# Altium integrated library HORNET-IPG.IntLib: 137 symbols (part 4 of 4)
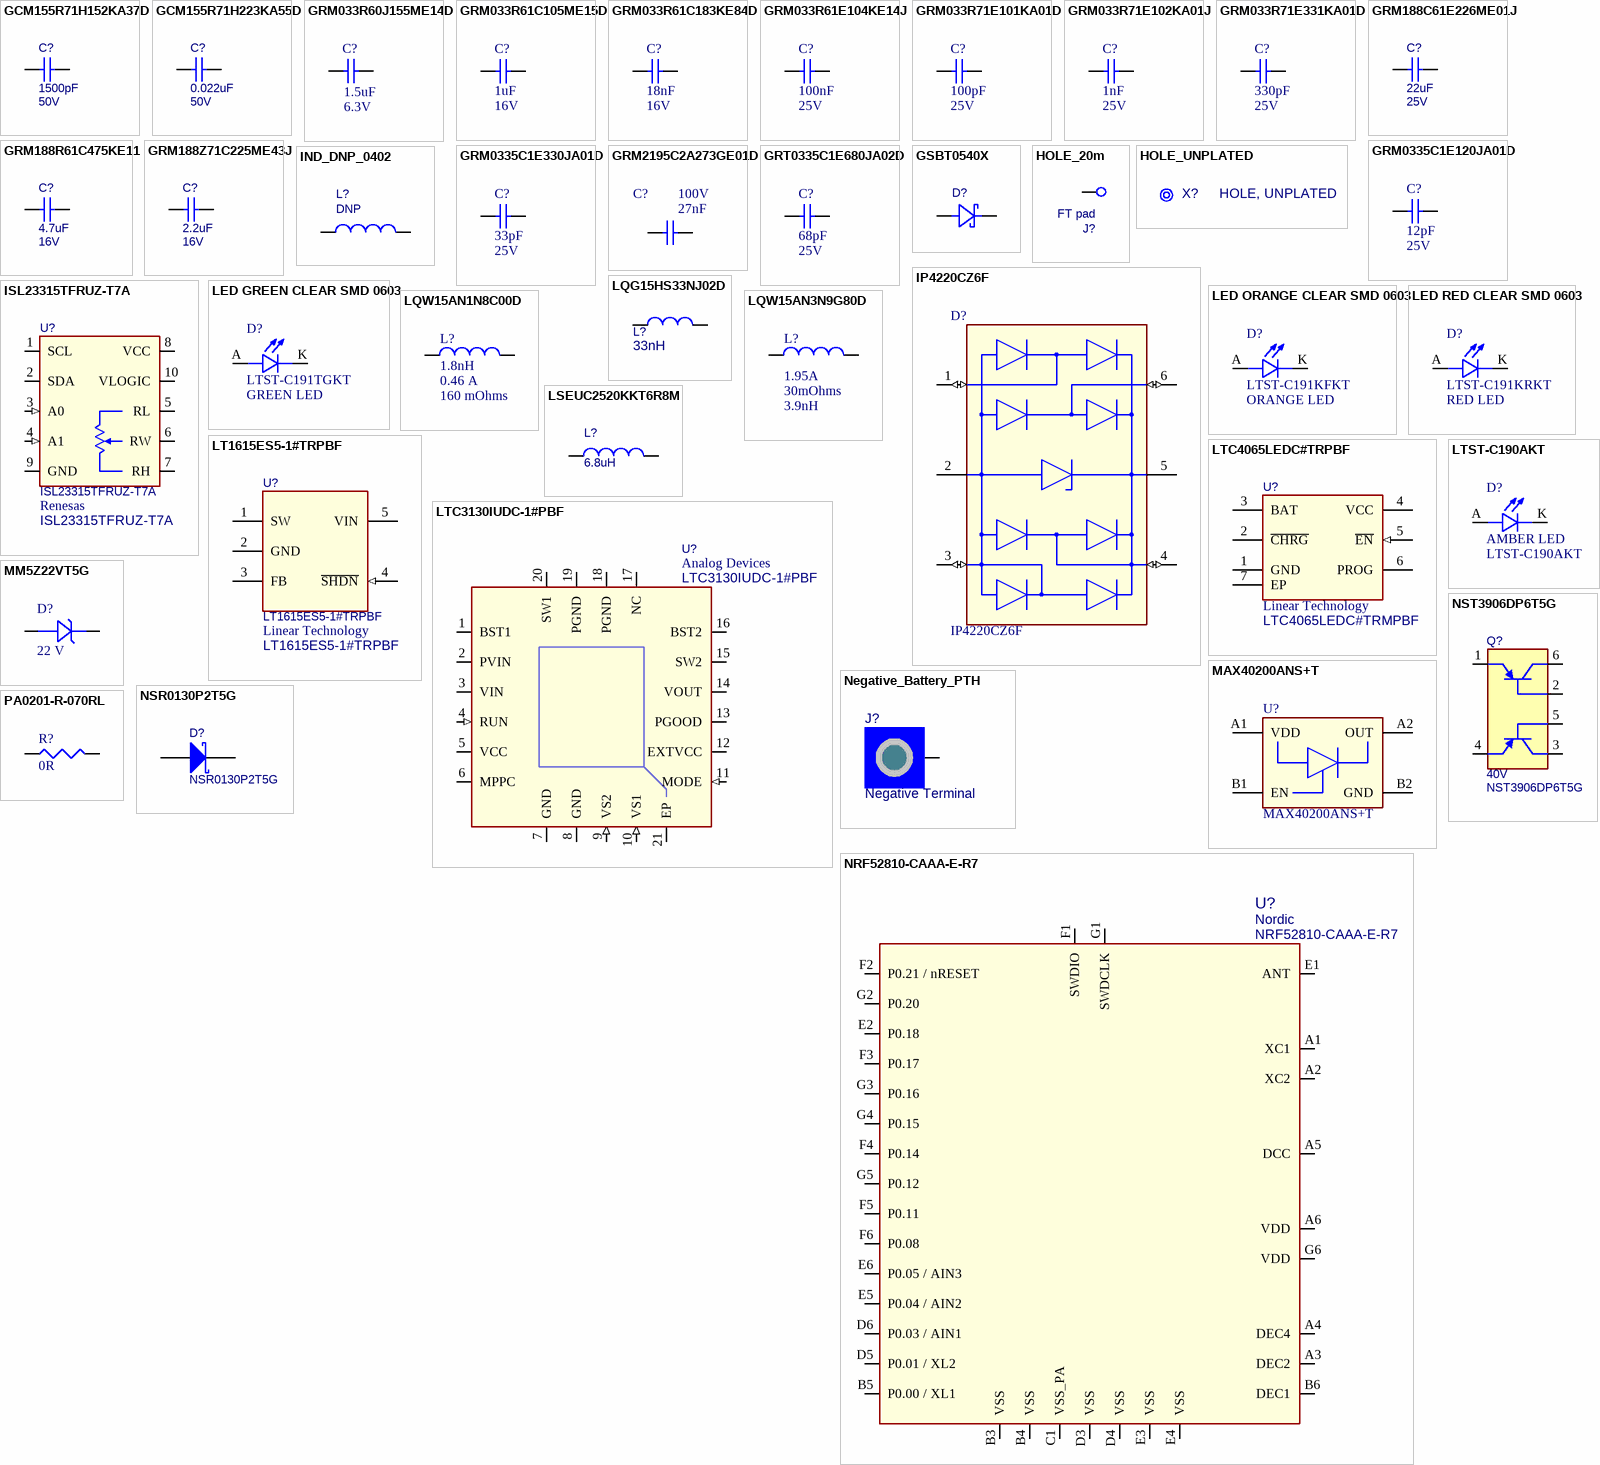
[diagram p7: symbols GCM155R71H152KA37D to PA0201-R-070RL]

## LQW15AN3N9G80D
designator L?  value 3.9nH  Current Rating: 1.95A  DC Resistance: 30mOhms  (hidden comment: LQW15AN3N9G80D)
Inductor, 3.9nH, 1.95A, 2%, 0402; Manufacturer: Murata; Medical Grade Manufacturer: TBD; Shielding: Unshielded; Category: Inductor; Temperature Coefficient: -; Manufacturer Part Number: LQW15AN3N9G80D; Medical Grade Manufacturer Part Number: TBD; Size Code: 0402; Supplier: TBD; Supplier Part Number: TBD; Height: 0.5mm; Width: 0.6mm; Length: 1mm; Tolerance: 2%; Current Saturation: -; Supplier 1: Mouser; Supplier Part Number 1: 81-LQW15AN3N9G80D; Supplier 2: Digikey; Supplier Part Number 2: 490-LQW15AN3N9G80DCT-ND; Supplier 3: Digikey; Supplier Part Number 3: 490-LQW15AN3N9G80DDKR-ND; Supplier 4: Digikey; Supplier Part Number 4: 490-LQW15AN3N9G80DTR-ND
footprint L0402_C (Chip Inductor, 2-Leads, Body 1.00x0.50mm, IPC High Density)
pins: 1, 2

## LSEUC2520KKT6R8M
designator L?  value 6.8uH  (hidden comment: LSEUC2520KKT6R8M)
6.8 µH Unshielded Wirewound Inductor 1.3 A 265mOhm Max 1008 (2520 Metric); Manufacturer: Taiyo Yuden; Medical Grade MFR: TBD; Rating: 1.3A; Length (mm): 2.50 ±0.20; Medical Grade MFR PN: TBD; PCB Footprint: TBD; Thickness (mm): 1.00; Width (mm): 2.00 ±0.20; Category: Inductor; Supplier 1: DigiKey; Supplier Part Number 1: 587-LSEUC2520KKT6R8MCT-ND; Manufacturer Part Number: LSEUC2520KKT6R8M
footprint LSEUC2520KKT6R8M (Inductor, Chip; 2.50 mm L X 2.00 mm W X 1.00 mm H body)
pins: 1, 2

## LT1615ES5-1#TRPBF
designator U?  Manufacturer: Linear Technology
Boost, SEPIC Switching Regulator IC Positive Adjustable 1.23V 1 Output 75mA (Switch) SOT-23-5; Medical Grade MFR: TBD; Rating: 100 mA; Category: IC; Length (mm): 2.80 ±0.20; Medical Grade MFR PN: TBD; Package Description: TBD; PCB Footprint: TBD; Thickness (mm): 1.00; Value: LT1615ES5-1#TRPBF; Width (mm): 2.95 ±0.15; Supplier 1: Digi-Key; Supplier Part Number 1: 505-LT1615ES5-1#TRPBFCT-ND; Status: *; Review: *; Manufacturer Part Number: LT1615ES5-1#TRPBF
footprint LT_S5_L (SOT23, 5-Leads, Body 2.90x2.80mm, Pitch 0.95mm, IPC High Density)
pins: 1 SW, 2 GND (power), 3 FB, 4 ~{SHDN} (in), 5 VIN (power)

## LTC3130IUDC-1#PBF
designator U?  Manufacturer: Analog Devices  (hidden comment: LTC3130IUDC-1#PBF)
Buck-Boost Converter, Selectable Voltage, QFN-20; Medical Grade MFR: TBD; Rating: 25V; Category: IC; Length (mm): 4.00 ±0.10; Medical Grade MFR PN: TBD; PackageDescription: TBD; PCB Footprint: TBD; Thickness (mm): 0.75 ±0.05; Value: LTC3130IUDC-1#PBF; Width (mm): 3.00 ±0.10; Supplier 1: Digi-Key; Supplier Part Number 1: LTC3130IUDC-1#PBF-ND; Status: *; Review: *; Manufacturer Part Number: LTC3130IUDC-1#PBF
footprint LT_UDC-20_REDUCED (QFN, 20-Leads, Body 3.00x4.00mm, Pitch 0.50mm, Thermal Pad 1.65x2.65mm, IPC High Density)
pins: 1 BST1, 2 PVIN (power), 3 VIN (power), 4 RUN (in), 5 VCC (power), 6 MPPC, 7 GND (power), 8 GND (power), 9 VS2 (in), 10 VS1 (in), 11 MODE (in), 12 EXTVCC (power), 13 PGOOD (oc), 14 VOUT (power), 15 SW2, 16 BST2, 17 NC, 18 PGND (power), 19 PGND (power), 20 SW1, 21 EP (power)

## LTC4065LEDC#TRPBF
designator U?  value LTC4065LEDC#TRMPBF  Manufacturer: Linear Technology  (hidden comment: LTC4065LEDC#TRPBF)
Charge Controller, 4.2V, 250mA, DFN-6; Medical Grade MFR: TBD; Category: IC; Length (mm): 2.00 ±0.10; Medical Grade MFR PN: TBD; PCB Footprint: TBD; Rating: 250mA; Thickness (mm): 0.75 ±0.05; Width (mm): 2.00 ±0.10; Alt Manufacturer: -; Alt Manufacturer PN: -; Supplier 1: Digi-Key; Supplier Part Number 1: 505-LTC4065LEDC#TRPBFCT-ND; Supplier Link: https://www.analog.com/en/products/ltc4065l.html; Datasheet: https://datasheet.ciiva.com/pdfs/VipMasterIC/IC/ANDI/ANDI-S-A0006647666/ANDI-S-A0006647666-1.pdf?src-supplier=IHS+Markit; Status: *; Review: *; Manufacturer Part Number: LTC4065LEDC#TRPBF
footprint LT_DC6 (SON, 6-Leads, Body 2.00x2.00mm, Pitch 0.50mm, Thermal Pad, IPC High Density)
pins: 1 GND (power), 2 ~{CHRG} (oc), 3 BAT (power), 4 VCC (power), 5 ~{EN} (in), 6 PROG, 7 EP (power)

## LTST-C190AKT
designator D?  value AMBER LED
LED, Amber, SMD, 0603, 2.1 V, 30 mA; Manufacturer: Lite-On; Forward Voltage: 2.1V; Forward Current: 30mA; Power Rating: 100 mW; Wavelength: 602 nm; Category: LED; Manufacturer Part Number: LTST-C190AKT; Size Code: 0603; Height: 0.55 mm; Width: 0.8 mm; Length: 1.6 mm; Supplier 1: Mouser; Supplier Part Number 1: 859-LTST-C190AKT
footprint LEDC0603
pins: A, K

## MAX40200ANS+T
designator U?
OR Controller Source Selector Switch P-Channel 1:1 4-WLP (0.73x0.73); Manufacturer: Maxim Integrated; Voltage - Supply: 1.5V ~ 5.5V; Current - Output (Max): 1.2A; Value: MAX40200ANS+T; Manufacturer Part Number: MAX40200ANS+T; Mounting Type: SMD; Supplier 1: Digikey; Supplier Part Number 1: MAX40200ANS+TCT-ND
footprint BGA4N35P2X2_72X72X50N
pins: A1 VDD, A2 OUT, B1 EN, B2 GND

## MM5Z22VT5G
designator D?  Breakdown Voltage: 22 V  (hidden comment: MM5Z22VT5G)
ZEN SOD523 LOW IZ REG 0.5W 22V; Manufacturer: onsemi; Type: Zener; Number of Channels: 1; Forward Voltage: 900 mV @ 10 mA; Power Dissipation: 500 mW; Category: Diode; Manufacturer Part Number: MM5Z22VT5G; Supplier 1: Digikey; Supplier Part Number 1: MM5Z2V4T1GOSCT-ND; Mounting Type: SMD; Height: 0.6 mm; Working Voltage: *; Clamping Voltage: *; Peak Pulse Current: *; Diode Capacitance: *
footprint SODFL1608X70N
pins: 1 K1, 2 K1

## Negative_Battery_PTH
designator J?  value Negative Terminal  (hidden comment: Negative_Battery_PTH)  (no BOM)
Negative terminal battery PTH connector for the QL0200I-A battery; Manufacturer: Quallion; PCB Footprint: TBD; Manufacturer Part Number: QL0200I-A; Medical Grade MFR: N/A; Medical Grade MFR PN: N/A; Rating: N/A; Category: Connector; Length (mm): TBD; Thickness (mm): TBD; Width (mm): TBD; Status: *; Review: *; Type: Battery Connector
footprint Negative_Battery_PTH (Negative terminal battery PTH connector for the QL0200I-A battery)
pins: 1

## NRF52810-CAAA-E-R7
designator U?  Manufacturer: Nordic  (hidden comment: NRF52810-CAAA-E-R7)
Bluetooth radio, v5.0, 192 kB Flash, 24 kB RAM, BGA-33; Medical Grade MFR: TBD; Category: IC; Length (mm): 2.48; Medical Grade MFR PN: TBD; Package Description: TBD; PCB Footprint: TBD; Rating: TBD; Thickness (mm): 0.48 ±0.06; Value: NRF52810-CAAA-E-R7; Width (mm): 2.46; Supplier 1: DigiKey; Supplier Part Number 1: 4823-NRF52810-CAAA-E-R7CT-ND; Status: *; Review: *; Manufacturer Part Number: NRF52810-CAAA-E-R7
footprint NORDIC_WLCSP_2.482x2.464
pins: A1 XC1, A2 XC2, A3 DEC2, A4 DEC4, A5 DCC, A6 VDD, B3 VSS, B4 VSS, B5 P0.00 / XL1, B6 DEC1, C1 VSS_PA, D3 VSS, D4 VSS, D5 P0.01 / XL2, D6 P0.03 / AIN1, E1 ANT, E2 P0.18, E3 VSS, E4 VSS, E5 P0.04 / AIN2, E6 P0.05 / AIN3, F1 SWDIO, F2 P0.21 / nRESET, F3 P0.17, F4 P0.14, F5 P0.11, F6 P0.08, G1 SWDCLK, G2 P0.20, G3 P0.16, G4 P0.15, G5 P0.12, G6 VDD

## NSR0130P2T5G
designator D?
Schottky, 30V, 100mA, 385mV, 200mW, SOD-923; Manufacturer: ON Semiconductor; Medical Grade MFR: TBD; Review: 020823; Length (mm): 1.00 ±0.05; Medical Grade MFR PN: TBD; PCB Footprint: TBD; Rating: 30V; Thickness (mm): 0.40 ±0.03; Value: NSR0130P2T5G; Width (mm): 0.60 ±0.05; Category: Diode; Supplier 1: Future Electronics; Supplier Part Number 1: 7098145; Status: Approved; Manufacturer Part Number: NSR0130P2T5G
footprint ONSC_SOD-923_CASE514AB
pins: 1 K, 2 A

## NST3906DP6T5G
designator Q?  Rating: 40V  (hidden comment: NST3906DP6T5G)
TRANS 2PNP 40V 0.2A SOT963; Manufacturer: ON Semi; Medical Grade MFR: TBD; Category: Transistor; Length (mm): 1.00 ±0.05; Medical Grade MFR PN: TBD; PCB Footprint: TBD; Thickness (mm): 0.45 ±0.05; Value: NST3906DP6T5G; Width (mm): 1.00 ±0.05; Package Description: SOT963; Supplier 1: Digi-Key; Supplier Part Number 1: NST3906DP6T5GOSCT-ND; Status: *; Review: *; Manufacturer Part Number: NST3906DP6T5G
footprint DIODESINC_SOT-963-6 (SOTFL, 6-Leads, Body 1.00x1.00mm, Pitch 0.35mm, IPC High Density)
pins: 1 E2, 2 B2, 3 C1, 4 E1, 5 B1, 6 C2

## PA0201-R-070RL
designator R?  value 0R  (hidden comment: PA0201-R-070RL)
Resistor, 0 Ohm, 0201, Metal element, Non-Implant grade,; Manufacturer: YAGEO; Temperature Coefficient: 150 ppm/°C; Category: Resistor; Manufacturer Part Number: PA0201-R-070RL; Medical Grade Manufacturer: -; Medical Grade Manufacturer Part Number: -; Size Code: 0201; Supplier: TBD; Supplier Part Number: TBD; Voltage Rating: *
footprint R0201_C (R0201_C generated by IPC compliant footprint wizard)
pins: 1, 2

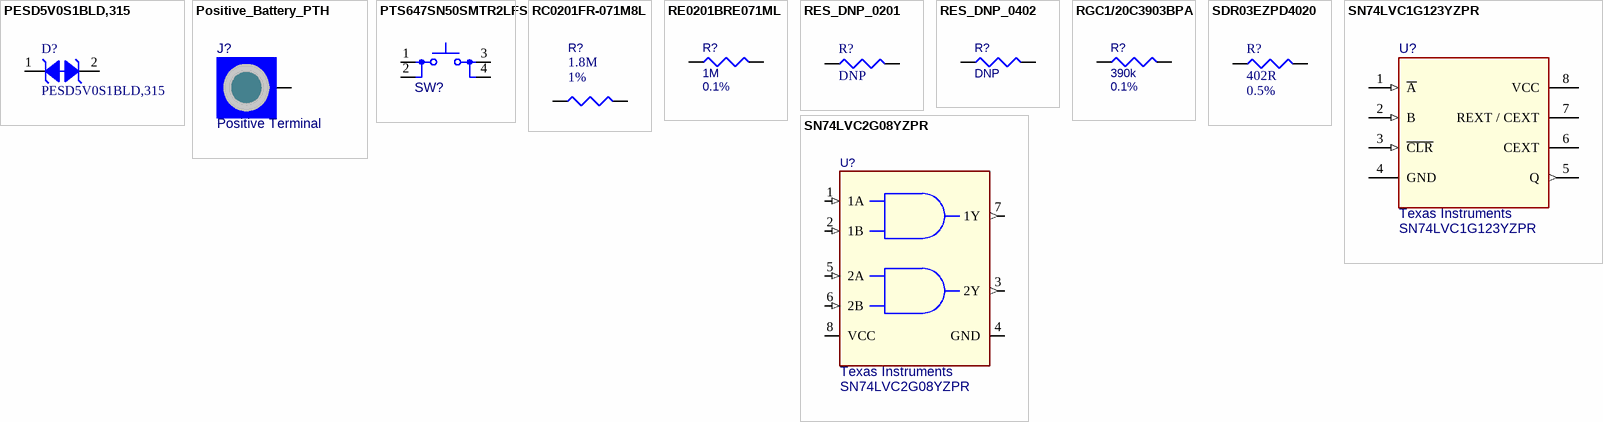
[diagram p3: symbols PESD5V0S1BLD,315 to SN74LVC2G08YZPR]

## PESD5V0S1BLD,315
designator D?
Diode ESD (Bi-directional); Manufacturer: Nexperia; Datasheet Link: https://assets.nexperia.com/documents/data-sheet/PESD5V0S1BLD.pdf; Height: 0.4mm; Mouser Part Number: 771-PESD5V0S1BLD315; Mouser Price/Stock: https://www.mouser.co.uk/ProductDetail/Nexperia/PESD5V0S1BLD315?qs=A1cBxND5mHLYeryYrbux2w%3D%3D; Arrow Part Number: PESD5V0S1BLD,315; Arrow Price/Stock: https://www.arrow.com/en/products/pesd5v0s1bld315/nexperia?region=nac; Manufacturer Part Number: PESD5V0S1BLD,315; Supplier 1: Future Electronics; Supplier Part Number 1: 8158301
footprint PESD5V0S1BLD315
pins: 1 K1, 2 K2

## Positive_Battery_PTH
designator J?  value Positive Terminal  (hidden comment: Positive_Battery_PTH)  (no BOM)
Positive terminal battery PTH connector for the QL0200I-A battery; Manufacturer: Quallion; PCB Footprint: TBD; Manufacturer Part Number: QL0200I-A; Medical Grade MFR: N/A; Medical Grade MFR PN: N/A; Rating: N/A; Category: Connector; Length (mm): TBD; Thickness (mm): TBD; Width (mm): TBD; Status: *; Review: *; Type: Battery Connector
footprint Positive_Battery_PTH (Positive terminal battery PTH connector for the QL0200I-A battery)
pins: 1

## PTS647SN50SMTR2LFS
designator SW?  (value not drawn)
Pushbutton, NO-MOM, 12V, 0.05A, SMT; Manufacturer: C&K; Category: Pushbutton; Length (mm): 6.5 ±0.20; Manufacturer Part Number: PTS647SN50SMTR2LFS; Rating: 12V,0.05A; Thickness (mm): 1.55 ±0.15; Width (mm): 4.5; Package Description: SMT; Supplier 1: Digi-Key; Supplier Part Number 1: PTS647SN50SMTR2LFSCT-ND; Status: *; Review: *
footprint CK_PTS647 (PB, 4-Leads, Body 6.5x4.5mm)
pins: 1, 2, 3, 4

## RC0201FR-071M8L
designator R?  value 1.8M  Precision: 1%  (hidden comment: RC0201FR-071M8L)
Resistor, 1.8M, 1%, 0201; Manufacturer: Yageo; Medical Grade MFR: TBD; PCB Footprint: R0201_C; Rating: 25V; Length (mm): 0.6; Manufacturer Part Number: RC0201FR-071M8L; Medical Grade MFR PN: TBD; Thickness (mm): 0.23; Width (mm): 0.3; Category: Resistor; Status: *; Review: *; Supplier 1: Digikey; Supplier Part Number 1: 13-RC0201FR-071M8LCT-ND; Supplier 2: Digikey; Supplier Part Number 2: 13-RC0201FR-071M8LDKR-ND; Supplier 3: Digikey; Supplier Part Number 3: 13-RC0201FR-071M8LTR-ND; Supplier 4: Mouser; Supplier Part Number 4: 603-RC0201FR-071M8L
footprint R0201_C (R0201_C generated by IPC compliant footprint wizard)
pins: 1, 2

## RE0201BRE071ML
designator R?  value 1M  Precision: 0.1%  (hidden comment: RE0201BRE071ML)
Resistor, 1M, 0.1%, 0201; Manufacturer: Yageo; Medical Grade MFR: TBD; PCB Footprint: res0201_reduced; Rating: 25V; Length (mm): 0.6; Manufacturer Part Number: RE0201BRE071ML; Medical Grade MFR PN: TBD; Thickness (mm): 0.23; Width (mm): 0.3; Category: Resistor; Supplier 1: Digikey; Supplier Part Number 1: 13-RE0201BRE071MLCT-ND; Status: *; Review: *; Supplier 2: Digikey; Supplier Part Number 2: 13-RE0201BRE071MLDKR-ND; Supplier 3: Digikey; Supplier Part Number 3: 13-RE0201BRE071MLTR-ND; Supplier 4: Mouser; Supplier Part Number 4: 603-RE0201BRE071ML
footprint R0201_C (R0201_C generated by IPC compliant footprint wizard)
pins: 1, 2

## RES_DNP_0201
designator R?  value DNP  (hidden comment: RES_DNP_0201)  (no BOM)
footprint R0201_C (Chip Resistor, 2-Leads, Body 0.60x0.30mm, IPC High Density)
pins: 1, 2

## RES_DNP_0402
designator R?, comment value DNP  (hidden comment: Resistor, DNP, 0402)
PCB Footprint: res0402_reduced; Review: 020823; Length (mm): 1.12 ±0.10; Manufacturer: N/A; Manufacturer PN: N/A; Medical Grade MFR: N/A; Medical Grade MFR PN: N/A; Rating: N/A; Thickness (mm): 0.33 ±0.08; Width (mm): 0.56 ±0.08; Category: Resistor; Status: Approved
footprint RES0402_REDUCED (Chip Resistor, Body 1.0x0.5mm, IPC High Density)
pins: 1, 2

## RGC1/20C3903BPA
designator R?  value 390k  Precision: 0.1%  (hidden comment: RGC1/20C3903BPA)
Resistor, 390k, 0.1%, 0201; Manufacturer: Kamaya; Medical Grade MFR: TBD; PCB Footprint: res0201_reduced; Rating: 25V; Length (mm): 0.6; Manufacturer Part Number: RGC1/20C3903BPA; Medical Grade MFR PN: TBD; Thickness (mm): 0.23; Width (mm): 0.3; Category: Resistor; Supplier 1: Digikey; Supplier Part Number 1: 2315-RGC1/20C3903BPATR-ND; Status: *; Review: *; Supplier 2: Mouser; Supplier Part Number 2: 791-RGC1/20C3903BPA
footprint R0201_C (R0201_C generated by IPC compliant footprint wizard)
pins: 1, 2

## SDR03EZPD4020
designator R?  value 402R  Tolerance: 0.5%  (hidden comment: SDR03EZPD4020)
402 Ohms ±0.5% 0.4W Chip Resistor 0603 (1608 Metric) Automotive AEC-Q200, Pulse Withstanding Thick Film; Manufacturer: Vishay; Power: 400mW; Category: Chip SMD Resistors; Manufacturer Part Number: SDR03EZPD4020; RoHS: Yes; Mounting Technology: Surface Mount; Pins: 2; Package Shape: Rectangular; Case/Package: 0603; Terminal Finish: Nickel; Min Operating Temperature: -55°C; Max Operating Temperature: 155°C; Construction: Chip; ComponentLink1URL: https://datasheet.ciiva.com:443/pdfs/VipMasterIC/IC/VISH/VISH-S-A0002932828/VISH-S-A0002932828-1.pdf?src-supplier=IHS+Markit; ComponentLink1Description: https://datasheet.ciiva.com:443/pdfs/VipMasterIC/IC/VISH/VISH-S-A0002932828/VISH-S-A0002932828-1.pdf?src-supplier=IHS+Markit; ComponentLink2URL: https://datasheet.ciiva.com/2471/crcw0201e3-2471712.pdf?src-supplier=Digikey; ComponentLink2Description: https://datasheet.ciiva.com/2471/crcw0201e3-2471712.pdf?src-supplier=Digikey; ComponentLink3URL: https://datasheet.ciiva.com/7841/1719906-7841431.pdf?src-supplier=Element14; ComponentLink3Description: https://datasheet.ciiva.com/7841/1719906-7841431.pdf?src-supplier=Element14; ComponentLink4URL: https://datasheet.ciiva.com/7841/1719906-7841430.pdf?src-supplier=Element14; ComponentLink4Description: https://datasheet.ciiva.com/7841/1719906-7841430.pdf?src-supplier=Element14; ComponentLink5URL: https://datasheet.ciiva.com/22665/1847332-22665688.pdf?src-supplier=Element14; ComponentLink5Description: https://datasheet.ciiva.com/22665/1847332-22665688.pdf?src-supplier=Element14; ComponentLink6URL: https://datasheet.ciiva.com/2471/crcw0201e3-2471713.pdf?src-supplier=Digikey; ComponentLink6Description: https://datasheet.ciiva.com/2471/crcw0201e3-2471713.pdf?src-supplier=Digikey; Supplier 1: DigiKey; Supplier Part Number 1: 846-SDR03EZPD4020CT-ND; ComponentLink7URL: https://datasheet.ciiva.com/2471/crcw0201e3-2471711.pdf?src-supplier=Digikey; ComponentLink7Description: https://datasheet.ciiva.com/2471/crcw0201e3-2471711.pdf?src-supplier=Digikey; ComponentLink8URL: https://datasheet.ciiva.com/16757/70202042-16757849.pdf?src-supplier=Allied+Electronics; ComponentLink8Description: https://datasheet.ciiva.com/16757/70202042-16757849.pdf?src-supplier=Allied+Electronics; ComponentLink9URL: https://datasheet.ciiva.com/16436/crcw0201e3-16436237.pdf?src-supplier=Future+Electronics; ComponentLink9Description: https://datasheet.ciiva.com/16436/crcw0201e3-16436237.pdf?src-supplier=Future+Electronics
footprint R0603 (Chip Resistor, 2-Leads, Body 1.50x0.80mm, IPC High Density)
pins: 1, 2

## SN74LVC1G123YZPR
designator U?  Manufacturer: Texas Instruments  (hidden comment: SN74LVC1G123YZPR)
Monostable, RC set, dual triggers, BGA-8; Medical Grade MFR: TBD; Category: IC; Length (mm): 1.89 ±0.03; Medical Grade MFR PN: TBD; Package Description: TBD; PCB Footprint: TBD; Rating: TBD; Thickness (mm): 0.50; Value: SN74LVC1G123YZPR; Width (mm): 0.89 ±0.03; Supplier 1: Digi-Key; Supplier Part Number 1: 296-21058-1-ND; Status: *; Review: *; Manufacturer Part Number: SN74LVC1G123YZPR
footprint TI_YZP0008 (BGA, 8-Leads, Body 0.89x1.89mmx0.50mm, Pitch 0.50mm)
pins: 1 ~{A} (in), 2 B (in), 3 ~{CLR} (in), 4 GND (power), 5 Q (out), 6 CEXT, 7 REXT / CEXT, 8 VCC (power)

## SN74LVC2G08YZPR
designator U?  Manufacturer: Texas Instruments  (hidden comment: SN74LVC2G08YZPR)
AND gate, Dual 2-input, BGA-8; Medical Grade MFR: TBD; Category: IC; Length (mm): 1.89 ±0.03; Medical Grade MFR PN: TBD; Package Description: TBD; PCB Footprint: TBD; Rating: TBD; Thickness (mm): 0.50; Value: SN74LVC2G08YZPR; Width (mm): 0.89 ±0.03; Supplier 1: Digi-Key; Supplier Part Number 1: 296-14371-1-ND; Status: *; Review: *; Manufacturer Part Number: SN74LVC2G08YZPR
footprint TI_YZP0008 (BGA, 8-Leads, Body 0.89x1.89mmx0.50mm, Pitch 0.50mm)
pins: 1 1A (in), 2 1B (in), 3 2Y (out), 4 GND (power), 5 2A (in), 6 2B (in), 7 1Y (out), 8 VCC (power)

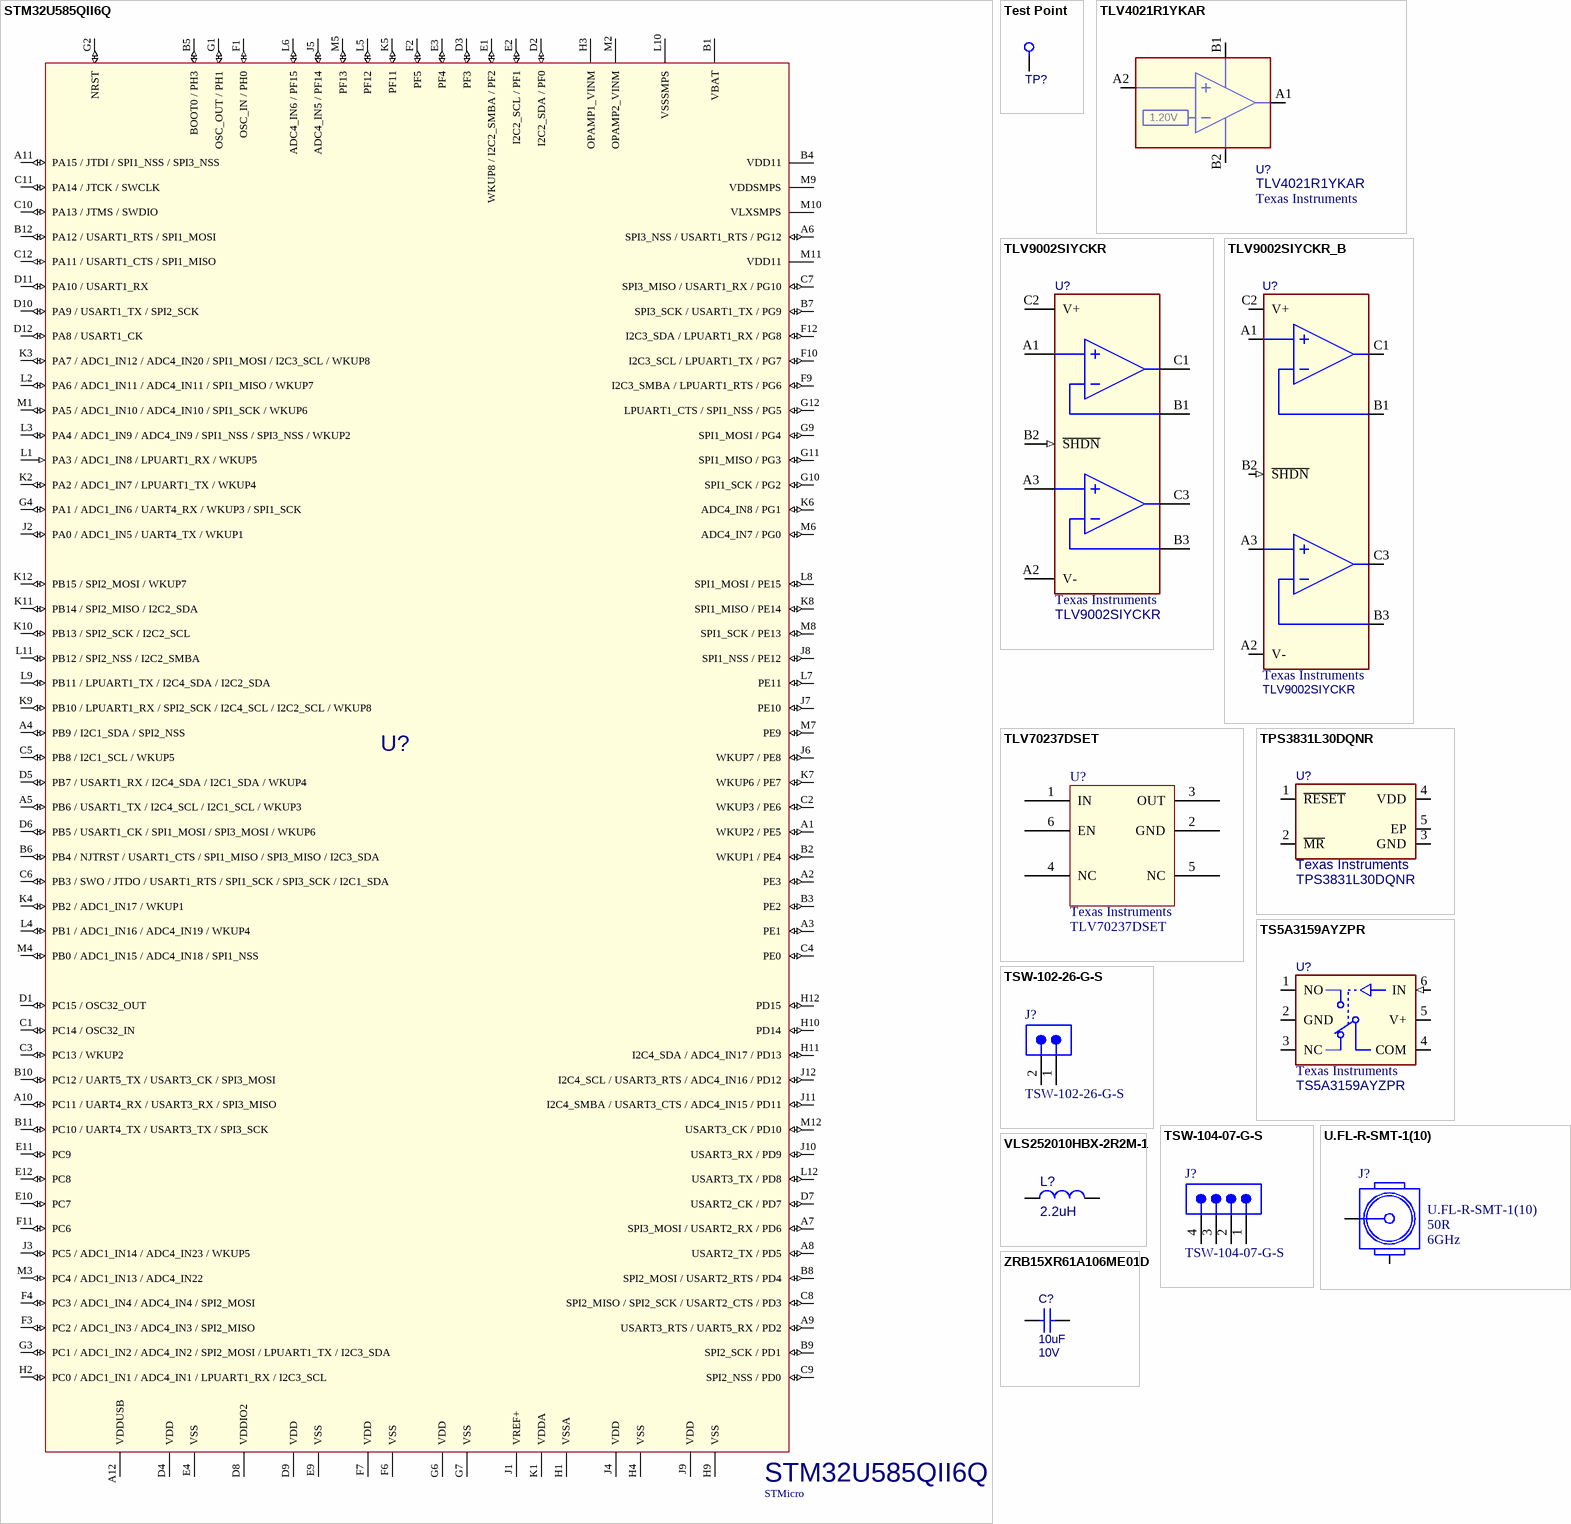
[diagram p4: symbols STM32U585QII6Q to ZRB15XR61A106ME01D]

## STM32U585QII6Q
designator U?  Manufacturer: STMicro  (hidden comment: STM32U585QII6Q)
Microcontroller, ARM Cortex-M33, 2.0 MB Flash, 786 kB RAM, BGA-132 pins with dedicated pinout supporting SMPS step-down converter; Medical Grade MFR: TBD; Category: IC; Length (mm): 7.00 ±0.15; Medical Grade MFR PN: TBD; Package Description: TBD; PCB Footprint: TBD; Rating: TBD; Thickness (mm): 0.60; Width (mm): 7.00 ±0.15; Supplier 1: Mouser; Supplier Part Number 1: 511-STM32U585QII6Q; Status: *; Review: *; Value: STM32U585QII6Q; Manufacturer Part Number: STM32U585QII6Q
footprint STM_UFBGA132 (Ball Grid Array (BGA), 0.50 mm pitch, square; 132 pin, 7.00 mm L X 7.00 mm W X 0.60 mm H body)
pins: A1 WKUP2 / PE5 (io), A2 PE3 (io), A3 PE1 (io), A4 PB9 / I2C1_SDA / SPI2_NSS (io), A5 PB6 / USART1_TX / I2C4_SCL / I2C1_SCL / WKUP3 (io), A6 SPI3_NSS / USART1_RTS / PG12 (io), A7 SPI3_MOSI / USART2_RX / PD6 (io), A8 USART2_TX / PD5 (io), A9 USART3_RTS / UART5_RX / PD2 (io), A10 PC11 / UART4_RX / USART3_RX / SPI3_MISO (io), A11 PA15 / JTDI / SPI1_NSS / SPI3_NSS (io), A12 VDDUSB (power), B1 VBAT (power), B2 WKUP1 / PE4 (io), B3 PE2 (io), B4 VDD11 (power), B5 BOOT0 / PH3 (io), B6 PB4 / NJTRST / USART1_CTS / SPI1_MISO / SPI3_MISO / I2C3_SDA (io), B7 SPI3_SCK / USART1_TX / PG9 (io), B8 SPI2_MOSI / USART2_RTS / PD4 (io), B9 SPI2_SCK / PD1 (io), B10 PC12 / UART5_TX / USART3_CK / SPI3_MOSI (io), B11 PC10 / UART4_TX / USART3_TX / SPI3_SCK (io), B12 PA12 / USART1_RTS / SPI1_MOSI (io), C1 PC14 / OSC32_IN (io), C2 WKUP3 / PE6 (io), C3 PC13 / WKUP2 (io), C4 PE0 (io), C5 PB8 / I2C1_SCL / WKUP5 (io), C6 PB3 / SWO / JTDO / USART1_RTS / SPI1_SCK / SPI3_SCK / I2C1_SDA (io), C7 SPI3_MISO / USART1_RX / PG10 (io), C8 SPI2_MISO / SPI2_SCK / USART2_CTS / PD3 (io), C9 SPI2_NSS / PD0 (io), C10 PA13 / JTMS / SWDIO (io), C11 PA14 / JTCK / SWCLK (io), C12 PA11 / USART1_CTS / SPI1_MISO (io), D1 PC15 / OSC32_OUT (io), D2 I2C2_SDA / PF0 (io), D3 PF3 (io), D4 VDD (power), D5 PB7 / USART1_RX / I2C4_SDA / I2C1_SDA / WKUP4 (io), D6 PB5 / USART1_CK / SPI1_MOSI / SPI3_MOSI / WKUP6 (io), D7 USART2_CK / PD7 (io), D8 VDDIO2 (power), D9 VDD (power), D10 PA9 / USART1_TX / SPI2_SCK (io), D11 PA10 / USART1_RX (io), D12 PA8 / USART1_CK (io), E1 WKUP8 / I2C2_SMBA / PF2 (io), E2 I2C2_SCL / PF1 (io), E3 PF4 (io), E4 VSS (power), E9 VSS (power), E10 PC7 (io), E11 PC9 (io), E12 PC8 (io), F1 OSC_IN / PH0 (io), F2 PF5 (io), F3 PC2 / ADC1_IN3 / ADC4_IN3 / SPI2_MISO (io), F4 PC3 / ADC1_IN4 / ADC4_IN4 / SPI2_MOSI (io), F6 VSS (power), F7 VDD (power), F9 I2C3_SMBA / LPUART1_RTS / PG6 (io), F10 I2C3_SCL / LPUART1_TX / PG7 (io), F11 PC6 (io), F12 I2C3_SDA / LPUART1_RX / PG8 (io), G1 OSC_OUT / PH1 (io), G2 NRST (io), G3 PC1 / ADC1_IN2 / ADC4_IN2 / SPI2_MOSI / LPUART1_TX / I2C3_SDA (io), G4 PA1 / ADC1_IN6 / UART4_RX / WKUP3 / SPI1_SCK (io), G6 VDD (power), G7 VSS (power), G9 SPI1_MOSI / PG4 (io), G10 SPI1_SCK / PG2 (io), G11 SPI1_MISO / PG3 (io), G12 LPUART1_CTS / SPI1_NSS / PG5 (io), H1 VSSA (power), H2 PC0 / ADC1_IN1 / ADC4_IN1 / LPUART1_RX / I2C3_SCL (io), H3 OPAMP1_VINM, H4 VSS (power), H9 VSS (power), H10 PD14 (io), H11 I2C4_SDA / ADC4_IN17 / PD13 (io), H12 PD15 (io), J1 VREF+ (power), J2 PA0 / ADC1_IN5 / UART4_TX / WKUP1 (io), J3 PC5 / ADC1_IN14 / ADC4_IN23 / WKUP5 (io), J4 VDD (power), J5 ADC4_IN5 / PF14 (io), J6 WKUP7 / PE8 (io), J7 PE10 (io), J8 SPI1_NSS / PE12 (io), J9 VDD (power), J10 USART3_RX / PD9 (io), J11 I2C4_SMBA / USART3_CTS / ADC4_IN15 / PD11 (io), J12 I2C4_SCL / USART3_RTS / ADC4_IN16 / PD12 (io), K1 VDDA (power), K2 PA2 / ADC1_IN7 / LPUART1_TX / WKUP4 (io), K3 PA7 / ADC1_IN12 / ADC4_IN20 / SPI1_MOSI / I2C3_SCL / WKUP8 (io), K4 PB2 / ADC1_IN17 / WKUP1 (io), K5 PF11 (io), K6 ADC4_IN8 / PG1 (io), K7 WKUP6 / PE7 (io), K8 SPI1_MISO / PE14 (io), K9 PB10 / LPUART1_RX / SPI2_SCK / I2C4_SCL / I2C2_SCL / WKUP8 (io), K10 PB13 / SPI2_SCK / I2C2_SCL (io), K11 PB14 / SPI2_MISO / I2C2_SDA (io), K12 PB15 / SPI2_MOSI / WKUP7 (io), L1 PA3 / ADC1_IN8 / LPUART1_RX / WKUP5 (in), L2 PA6 / ADC1_IN11 / ADC4_IN11 / SPI1_MISO / WKUP7 (io), L3 PA4 / ADC1_IN9 / ADC4_IN9 / SPI1_NSS / SPI3_NSS / WKUP2 (io), L4 PB1 / ADC1_IN16 / ADC4_IN19 / WKUP4 (io), L5 PF12 (io), L6 ADC4_IN6 / PF15 (io), L7 PE11 (io), L8 SPI1_MOSI / PE15 (io), L9 PB11 / LPUART1_TX / I2C4_SDA / I2C2_SDA (io), L10 VSSSMPS (power), L11 PB12 / SPI2_NSS / I2C2_SMBA (io), L12 USART3_TX / PD8 (io), M1 PA5 / ADC1_IN10 / ADC4_IN10 / SPI1_SCK / WKUP6 (io), M2 OPAMP2_VINM, M3 PC4 / ADC1_IN13 / ADC4_IN22 (io), M4 PB0 / ADC1_IN15 / ADC4_IN18 / SPI1_NSS (io), M5 PF13 (io), M6 ADC4_IN7 / PG0 (io), M7 PE9 (io), M8 SPI1_SCK / PE13 (io), M9 VDDSMPS (power), M10 VLXSMPS (power), M11 VDD11 (power), M12 USART3_CK / PD10 (io)

## Test Point
designator TP?  (value not drawn)  (no BOM)
Test pad, 0.90mm circular pad; PCB Footprint: testpad_0p90mm; Length (mm): 0.90; Manufacturer: N/A; Manufacturer PN: N/A; Medical Grade MFR: N/A; Medical Grade MFR PN: N/A; Rating: N/A; Thickness (mm): N/A; Value: Test point; Width (mm): 0.90; Category: Test point; Status: *; Review: *
footprint testpad_0.9mm
pins: 1

## TLV4021R1YKAR
designator U?  Manufacturer: Texas Instruments  (hidden comment: TLV4021R1YKAR)
Comparator, 1.2V Reference, Open-drain, BGA-4; Medical Grade MFR: TBD; Category: IC; Length (mm): 0.73 ±0.03; Medical Grade MFR PN: TBD; Package Description: TBD; PCB Footprint: TBD; Rating: TBD; Thickness (mm): 0.40; Supplier 1: Digi-Key; Supplier Part Number 1: 296-TLV4021R1YKARCT-ND; Status: *; Review: *; Manufacturer Part Number: TLV4021R1YKAR; Value: TLV4021R1YKAR
footprint TI_YKA0004 (BGA, 4-Leads, Body 0.70x0.70mmx0.40mm, Pitch 0.35mm)
pins: A1 OUT (power), A2 IN, B1 V+ (power), B2 V- (power)
text: 1.20V

## TLV9002SIYCKR
designator U?  Manufacturer: Texas Instruments  (hidden comment: TLV9002SIYCKR)
Op Amp, Dual, Rail-to-Rail, 1MHz, BGA-9; Medical Grade MFR: TBD; Rating: 5.5V; Category: IC; Length (mm): 0.95 ±0.03; Medical Grade MFR PN: TBD; Package Description: TBD; PCB Footprint: TBD; Thickness (mm): 0.33; Value: TLV9002SIYCKR; Width (mm): 0.95 ±0.03; Supplier 1: Digi-Key; Supplier Part Number 1: 296-TLV9002SIYCKRCT-ND; Status: *; Review: *; Manufacturer Part Number: TLV9002SIYCKR
footprint TI_YCK0009 (BGA, 9-Leads, Body 0.95x0.95mmx0.33mm, Pitch 0.35mm)
pins: A1 IN1+, A2 V- (power), A3 IN2+, B1 IN1-, B2 ~{SHDN} (in), B3 IN2-, C1 OUT1, C2 V+ (power), C3 OUT2

## TLV9002SIYCKR_B
designator U?, comment Manufacturer: Texas Instruments  (hidden comment: TLV9002SIYCKR)
Op Amp, Dual, Rail-to-Rail, 1MHz, BGA-9; Medical Grade MFR: TBD; Rating: 5.5V; Category: IC; Length (mm): 0.95 ±0.03; Medical Grade MFR PN: TBD; PCB Footprint: TBD; Thickness (mm): 0.33; Value: TLV9002SIYCKR; Width (mm): 0.95 ±0.03; Package Description: TBD; Supplier 1: Mouser; Supplier Part Number 1: 595-TLV9002SIYCKR; Status: *; Review: *; Manufacturer Part Number: TLV9002SIYCKR
footprint TI_YCK0009 (BGA, 9-Leads, Body 0.95x0.95mmx0.33mm, Pitch 0.35mm)
pins: A1 IN1+, A2 V- (power), A3 IN2+, B1 IN1-, B2 ~{SHDN} (in), B3 IN2-, C1 OUT1, C2 V+ (power), C3 OUT2

## TLV70237DSET
designator U?  Manufacturer: Texas Instruments  (hidden comment: TLV70237DSET)
Fixed Positive LDO Regulator, 3.7V, 0.375V Dropout, PDSO6; Package Body Material: Plastic; Max Supply Voltage: 5.5V; Min Input Voltage: 2V; Channels: 1; Output Current1-Max: 300mA; Output Voltage1-Max: 3.774V; Output Voltage1-Min: 3.626V; Regulator Type: FIXED POSITIVE SINGLE OUTPUT LDO REGULATOR; Supplier: Digi-Key; RoHS: Yes; Category: Voltage Regulators - Linear; Stock: 1935; Pricing: 1=1,11, 10=0,992, 25=0,9416, 100=0,7736 (USD); Case/Package: VSON; Pins: 6; Package Shape: Square; Terminal Finish: Nickel; JESD-609 Code: e4; JESD-30 Code: S-PDSO-N6; Moisture Sensitivity Level: 1; Operating Temperature, TJ-Max: 125°C; Operating Temperature, TJ-Min: -40°C; Output Voltage1-Nom: 3.7V; Package Style: SMALL OUTLINE, VERY THIN PROFILEMeter; Peak Reflow Temperature (Cel): 260°C; Surface Mount: Yes; Terminal Form: No Lead; Terminal Position: DUAL; Length: 1.5mm; Width: 1.5mm; Height - Seated (Max): 0.8mm; Terminal Pitch: 0.5mm; Reach SVHC Compliant: Yes; RoHS Compliant: Yes; ComponentLink1URL: https://www.ti.com:443/lit/ds/symlink/tlv702.pdf?src-supplier=IHS+Markit; ComponentLink1Description: https://www.ti.com:443/lit/ds/symlink/tlv702.pdf?src-supplier=IHS+Markit; ComponentLink2URL: http://www.ti.com/lit/ds/symlink/tlv702.pdf?src-supplier=Digi-Key; ComponentLink2Description: http://www.ti.com/lit/ds/symlink/tlv702.pdf?src-supplier=Digi-Key; ComponentLink3URL: http://www.ti.com/lit/ds/symlink/tlv70237.pdf?src-supplier=Avnet; ComponentLink3Description: http://www.ti.com/lit/ds/symlink/tlv70237.pdf?src-supplier=Avnet; Supplier 1: Digi-Key; Supplier Part Number 1: 296-TLV70237DSETCT-ND; Supplier Part Number: 296-TLV70237DSETCT-ND; Manufacturer Part Number: TLV70237DSET
footprint SON127P600-8N
pins: 1 IN, 2 GND, 3 OUT, 4 NC, 5 NC, 6 EN

## TPS3831L30DQNR
designator U?  Manufacturer: Texas Instruments  (hidden comment: TPS3831L30DQNR)
Reset Monitor, 2.63V, Active low, X2SON; Medical Grade MFR: TBD; Category: IC; Length (mm): 1.00 ±0.05; Medical Grade MFR PN: TBD; PCB Footprint: TBD; Rating: N/A; Thickness (mm): 0.40; Value: TPS3831L30DQNR; Width (mm): 1.00 ±0.05; Package Description: TBD; Supplier 1: Digi-Key; Supplier Part Number 1: 296-40754-1-ND; Status: *; Review: *; Manufacturer Part Number: TPS3831L30DQNR
footprint TI_X2SON_DQN0004A (SON, 5-Leads, Body 1.00x1.00mm, Pitch 0.65mm, IPC High Density)
pins: 1 ~{RESET}, 2 ~{MR}, 3 GND, 4 VDD, 5 EP

## TS5A3159AYZPR
designator U?  Manufacturer: Texas Instruments  (hidden comment: TS5A3159AYZPR)
Analog Switch, SPDT, 2:1, DSBGA6; Medical Grade MFR: TBD; Rating: 5.0V; Category: IC; Length (mm): 1.39 ±0.03; Thickness (mm): 0.50 ±0.10; Width (mm): 0.89 ±0.03; Medical Grade MFR PN: TBD; Package Description: TBD; PCB Footprint: TBD; Value: TS5A3159AYZPR; Supplier 1: Digi-Key; Supplier Part Number 1: 296-18671-1-ND; Status: *; Review: *; Manufacturer Part Number: TS5A3159AYZPR
footprint TI_YZP6 (BGA, 6-Leads, Body 0.89x1.39mmx0.50mm, Pitch 0.50mm)
pins: 1 NO, 2 GND (power), 3 NC, 4 COM, 5 V+ (power), 6 IN (in)

## TSW-102-26-G-S
designator J?
Conn Unshrouded Header HDR 2 POS 2.54mm Solder ST Thru-Hole; Manufacturer: Samtec; Number of Contacts: 2; Gender: Male; Max Current Rating: 7.6A; Max Voltage Rating (AC): 550V; RoHS: True; ComponentLink1Description: Manufacturer URL; DatasheetVersion: F-214; Orientation: Vertical; Pitch: 2.54 mm; ComponentLink1URL: http://www.samtec.com; ComponentLink3Description: Package Specification; ComponentLink2Description: Datasheet; PackageVersion: DM, 8/1988; PackageDescription: .025[0.64] SQ. Post Terminal Strip Assembly; PackageReference: TSW-102-26-XX-S; Mounting Technology: Through-hole; Temperature Range: -55 to 125 degC; ComponentLink3URL: http://www.samtec.com/documents/webfiles/cpdf/TSW-XXX-XX-XXX-X-XX-XXX-MKT.pdf; ComponentLink2URL: http://www.samtec.com/documents/webfiles/pdf/TSW_TH.PDF; PartNumber: TSW-102-26-G-S; Supplier: Newark; Supplier Part Number: 12P1301; Manufacturer Part Number: TSW-102-26-G-S; Category: Connectors; Stock: 3117; Pricing: 1=0.51000, 10=0.47500, 100=0.33200, 500=0.28400, 1000=0.23700, 2500=0.21000, 5000=0.20400 (USD); Contact Material: Bronze; Contact Finish - Mating: GOLD; Insulation Color: Black; Insulation Material: PBT; Connector Type: Header; Termination: Solder; Flammability Rating: UL94 V-0; Reach SVHC Compliant: Yes; RoHS Compliant: Yes; ComponentLink4URL: https://datasheet.ciiva.com/10281/htsw-th-10281416.pdf?src-supplier=Avnet; ComponentLink4Description: https://datasheet.ciiva.com/10281/htsw-th-10281416.pdf?src-supplier=Avnet; ComponentLink5URL: https://datasheet.ciiva.com/6887/tsw-xxx-xx-xxx-x-xx-xxx-mkt-6887237.pdf?src-supplier=Digi-Key; ComponentLink5Description: https://datasheet.ciiva.com/6887/tsw-xxx-xx-xxx-x-xx-xxx-mkt-6887237.pdf?src-supplier=Digi-Key; Supplier 1: Digikey; Supplier Part Number 1: SAM1077-02-ND; Contact Plating: Gold; Color: Black; Housing Material: Polyester; Contact Shape: Square; Housing Color: Black; Min Operating Temperature: -55°C; Max Operating Temperature: 125°C; Number of Rows: 1; Packaging: Bulk; Number of Positions: 2; Series: TSW; Contact Type: Male Pin; Fastening Type: Pull; Package Quantity: 1; Length: 5.08mm; Width: 2.54mm; Contact Mating Length: 0.23inch; Depth: 2.54mm; Radiation Hardening: No; Lead Free: Lead Free
footprint SMTC-TSW-102-26-XX-S (.025 SQ Post Terminal Strip Assembly, 1x2 Pins, Vertical, 2.54mm Pitch, Male)
pins: 1, 2

## TSW-104-07-G-S
designator J?
Board Connector, 4 Contact(s), 1 Row(s), Male, Straight, 0.1 inch Pitch, Solder Terminal, Black Insulator, Receptacle; Manufacturer: Samtec; PartNumber: TSW-106-07-G-S; Pitch: 2.54 mm; Option: General Purpose; Filter Feature: No; Number of Rows Loaded: 1; Number of Contacts: 4; Additional Feature: E.L.P.; Contact Pattern: RECTANGULAR; Contact Style: SQ PIN-SKT; Mating Information: MULTIPLE MATING PARTS AVAILABLE; Plating Thickness: 10uin; Reference Standard: UL; Reliability: COMMERCIAL; RoHS: True; ComponentLink1Description: Manufacturer URL; DatasheetVersion: F-214; Orientation: Vertical; ComponentLink1URL: http://www.samtec.com; ComponentLink3Description: Package Specification; ComponentLink2Description: Datasheet; PackageVersion: DM, 8/1988; PackageDescription: .025[0.64] SQ. Post Terminal Strip Assembly; PackageReference: TSW-106-07-X-S; Mounting Technology: Through-hole; Temperature Range: -55 to 125 degC; ComponentLink3URL: http://www.samtec.com/documents/webfiles/cpdf/TSW-XXX-XX-XXX-X-XX-XXX-MKT.pdf; ComponentLink2URL: http://www.samtec.com/documents/webfiles/pdf/TSW_TH.PDF; Supplier: Arrow Electronics; Supplier Part Number: TSW-104-07-G-S; Manufacturer Part Number: TSW-104-07-G-S; Category: Board to Board Connectors; Stock: 5100; Pricing: 1=0,59, 50=0,46, 100=0,37, 500=0,32, 1000=0,24, 2000=0,21, 5000=0,15 (USD); Contact Finish - Termination: Gold (Au) - with Nickel (Ni) barrier; Contact Material: Bronze; Contact Finish - Mating: GOLD (10) OVER NICKEL (50); Insulation Color: Black; Insulation Material: Glass; Connector Type: BOARD CONNECTOR; JESD-609 Code: e4; Contact Gender: Male; Mixed Contacts: No; Mounting Style: STRAIGHT; Termination: Solder; Number Of Connectors: 1; Number Of PCB Rows: 1; PCB Contact Pattern: RECTANGULAR; Body/Shell Style: RECEPTACLE; Terminal Pitch: 2.54mm; Mating Contact Pitch: 0.1inch; Body Breadth: 0.1inch; Body Depth: 0.1inch; Terminal Length: 0.1inch; Flammability Rating: UL94 V-0; DIN Conformance: No; IEC Conformance: No; MIL Conformance: No; Reach SVHC Compliant: Yes; RoHS Compliant: Yes; ComponentLink4URL: https://datasheet.ciiva.com:443/pdfs/VipMasterIC/IC/SAMI/SAMI-S-A0003531373/SAMI-S-A0003531373-1.pdf?src-supplier=IHS+Markit; ComponentLink4Description: https://datasheet.ciiva.com:443/pdfs/VipMasterIC/IC/SAMI/SAMI-S-A0003531373/SAMI-S-A0003531373-1.pdf?src-supplier=IHS+Markit; ComponentLink5URL: https://datasheet.ciiva.com/6889/tsw-xxx-xx-xxx-x-xx-xxx-mkt-6889291.pdf?src-supplier=Digi-Key; ComponentLink5Description: https://datasheet.ciiva.com/6889/tsw-xxx-xx-xxx-x-xx-xxx-mkt-6889291.pdf?src-supplier=Digi-Key; Supplier 1: Digikey; Supplier Part Number 1: SAM1029-04-ND
footprint SMTC-TSW-104-07-X-S (.025 SQ Post Terminal Strip Assembly, 1x4 Pins, Vertical, 2.54mm Pitch, Male)
pins: 1, 2, 3, 4

## U.FL-R-SMT-1(10)
designator J?  Characteristic Impedance: 50R  Operating Frequency-Max: 6GHz
RF Connector, 1 Contact(s), Male, Board Mount, Surface Mount Terminal, Receptacle; Manufacturer: Hirose; Durability: 30Cycles; Insulation Resistance: 500MR; Number of Ports: 1; Option: General Purpose; Contact Resistance: 20mR; Contact Style: Coax; Coupling Type: Snap; Dielectric Withstanding Voltage (AC): 200V; Filter Feature: No; Mating Information: MULTIPLE MATING PARTS AVAILABLE; Panel Mount: No; VSWR: 1.5; Insertion Loss: 0.05dB; Body Depth: 0.098inch; Mounting Option 1: LOCKING; Body Diameter: 0.079inch; Reference Standard: UL; Reliability: COMMERCIAL; Supplier: Digi-Key; Supplier Part Number: H11891CT-ND; RoHS: Yes; Category: RF / Coaxial Connectors; Stock: 112692; Pricing: 1=1,35, 10=1,138, 25=1,092, 50=1,0686, 100=1,0221, 250=0,9292, 500=0,83628, 1000=0,74336 (USD); Mounting Technology: Board; Insulation Material: Polymer; Shell Finish: Silver; Shell Material: CuSn; Contact Material: Bronze; Contact Finish - Mating: GOLD; Contact Finish - Termination: GOLD; Insulation Color: Beige; Min Operating Temperature: -40°C; Max Operating Temperature: 90°C; Connector Type: RF CONNECTOR; Body/Shell Style: RECEPTACLE; Contact Gender: Male; Mounting Style: STRAIGHT; Termination: SMD/SMT; Number of Contacts: 1; JESD-609 Code: e4; Reach SVHC Compliant: Yes; RoHS Compliant: Yes; DIN Conformance: No; IEC Conformance: No; MIL Conformance: No; ComponentLink1URL: https://datasheet.ciiva.com:443/pdfs/VipMasterIC/IC/HIRO/HIROS10696/HIROS08829-1.pdf?src-supplier=IHS+Markit; ComponentLink1Description: https://datasheet.ciiva.com:443/pdfs/VipMasterIC/IC/HIRO/HIROS10696/HIROS08829-1.pdf?src-supplier=IHS+Markit; ComponentLink2URL: https://datasheet.ciiva.com/11762/0900766b8105243f-11762474.pdf?src-supplier=Rs; ComponentLink2Description: https://datasheet.ciiva.com/11762/0900766b8105243f-11762474.pdf?src-supplier=Rs; ComponentLink3URL: https://datasheet.ciiva.com/7651/91524-7651914.pdf?src-supplier=Element14; ComponentLink3Description: https://datasheet.ciiva.com/7651/91524-7651914.pdf?src-supplier=Element14; ComponentLink4URL: https://datasheet.ciiva.com/7651/91524-7651915.pdf?src-supplier=Element14; ComponentLink4Description: https://datasheet.ciiva.com/7651/91524-7651915.pdf?src-supplier=Element14; Manufacturer Part Number: U.FL-R-SMT-1(10); Supplier 1: Digikey; Supplier Part Number 1: H11891CT-ND
footprint FP-U_FL-R-SMT-1_10-MFG; pin to pad 2>2+3
pins: 1, 2

## VLS252010HBX-2R2M-1
designator L?  value 2.2uH  (hidden comment: VLS252010HBX-2R2M-1)
Inductor, 2.2uH, 1.76A, 1008; Manufacturer: TDK; Review: 020823; Category: Inductor; Rating: 1.76A; Supplier 1: Arrow Electronics; Supplier Part Number 1: VLS252010HBX-2R2M-1; Status: Approved; Manufacturer Part Number: VLS252010HBX-2R2M-1
footprint TDK_VLS252010HBX-1 (Chip Inductor, 2-Leads, Body 2.50x2.00mm, IPC High Density)
pins: 1, 2

## ZRB15XR61A106ME01D
designator C?  value 10uF  Rating: 10V  (hidden comment: ZRB15XR61A106ME01D)
Capacitor, 10uf, X5R, 10V, 20%, 0402, Implant-grade; Manufacturer: Murata; Medical Grade MFR: TBD; PCB Footprint: cap0402_reduced; Length (mm): 1.00 ±0.22; Medical Grade MFR PN: TBD; Thickness (mm): 0.65 ±0.2; Width (mm): 0.50 ±0.2; Category: Capacitor; Package Description: 0402; Check: *; Status: *; Review: *; Supplier 1: Arrow Electronics; Supplier Part Number 1: ZRB15XR61A106ME01D; Manufacturer Part Number: ZRB15XR61A106ME01D
footprint CAP0402_REDUCED (Chip Capacitor, Body 1.0x0.5mm, Height 0.6mm, IPC High Density)
pins: 1, 2